# Altium footprint library Components - 07.06.24 - 16.03.PcbLib: 2 footprints
Each footprint in its own frame and in the unit in brackets; x right, y up, seen from the top. Pads: shape width x height; smd on the part's side, far side on the other; paste and mask are expansions set on the pad; w line width, h text height; cw(c..) or ccw(c..) is an arc to the next point about the centre after c.

## 685119134923 [mm] "HDMI SMT Horizontal"
height 6.13

## PCBComponent_1 [mm]